# Altium schematic symbol library MMSZ5235.Schlib: 1 symbol
Pins are listed as number, name and electrical type; pins without a type are passive.

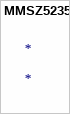
[diagram p0: symbol MMSZ5235]

## MMSZ5235
designator *